# Altium footprint library memory-sram.PCBLIB: 19 footprints (part 1 of 2)
Each footprint in its own frame and in the unit in brackets; x right, y up, seen from the top. Pads: shape width x height; smd on the part's side, far side on the other; paste and mask are expansions set on the pad; w line width, h text height; cw(c..) or ccw(c..) is an arc to the next point about the centre after c.
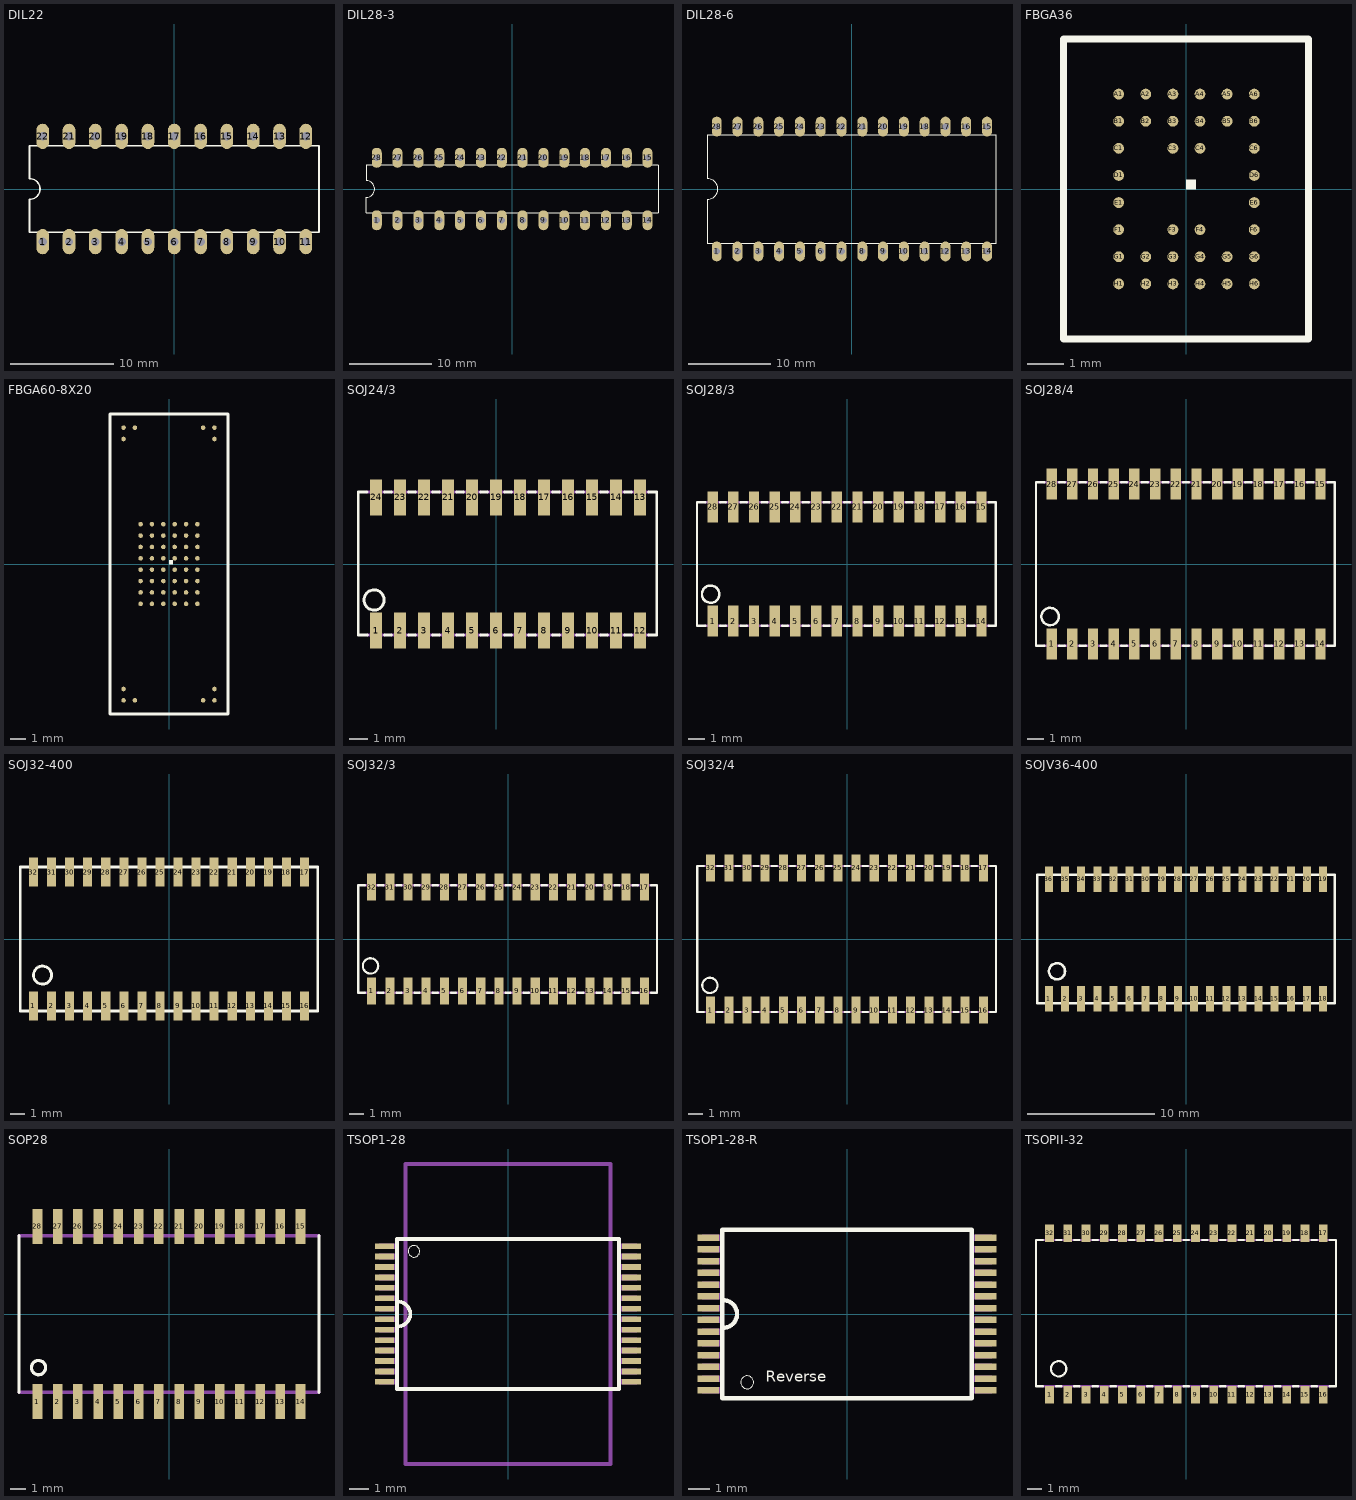
[diagram p0: the footprints below, top view; thin cyan lines are the x and y axes]

## DIL22 [mil]
pads (22):
  oval 48x96 hole 32: 1(-500,-200) 2(-400,-200) 3(-300,-200) 4(-200,-200) 5(-100,-200) 6(0,-200) 7(100,-200) 8(200,-200) 9(300,-200) 10(400,-200) 11(500,-200) 12(500,200) 13(400,200) 14(300,200) 15(200,200) 16(100,200) 17(0,200) 18(-100,200) 19(-200,200) 20(-300,200) 21(-400,200) 22(-500,200)
Top Overlay:
  lines w6: -550,-165 550,-165 550,165 -550,165 -550,40 cw(c-550,0) -550,-40 -550,-165

## DIL28-3 [mil]
pads (28):
  oval 48x96 hole 32: 1(-650,-150) 2(-550,-150) 3(-450,-150) 4(-350,-150) 5(-250,-150) 6(-150,-150) 7(-50,-150) 8(50,-150) 9(150,-150) 10(250,-150) 11(350,-150) 12(450,-150) 13(550,-150) 14(650,-150) 15(650,150) 16(550,150) 17(450,150) 18(350,150) 19(250,150) 20(150,150) 21(50,150) 22(-50,150) 23(-150,150) 24(-250,150) 25(-350,150) 26(-450,150) 27(-550,150) 28(-650,150)
Top Overlay:
  lines w6: -700,-115 700,-115 700,115 -700,115 -700,40 cw(c-700,0) -700,-40 -700,-115

## DIL28-6 [mil]
pads (28):
  oval 48x96 hole 32: 1(-650,-300) 2(-550,-300) 3(-450,-300) 4(-350,-300) 5(-250,-300) 6(-150,-300) 7(-50,-300) 8(50,-300) 9(150,-300) 10(250,-300) 11(350,-300) 12(450,-300) 13(550,-300) 14(650,-300) 15(650,300) 16(550,300) 17(450,300) 18(350,300) 19(250,300) 20(150,300) 21(50,300) 22(-50,300) 23(-150,300) 24(-250,300) 25(-350,300) 26(-450,300) 27(-550,300) 28(-650,300)
Top Overlay:
  lines w6: -695,-260 -695,-50 ccw(c-695,0) -695,50 -695,260 695,260 695,-260 -695,-260

## FBGA36 [mil]
pads (36):
  rrect100% 11.81x11.81 smd: A1(-73.82,103.35) A2(-44.29,103.35) A3(-14.76,103.35) A4(14.76,103.35) A5(44.29,103.35) A6(73.82,103.35) B1(-73.82,73.82) B2(-44.29,73.82) B3(-14.76,73.82) B4(14.76,73.82) B5(44.29,73.82) B6(73.82,73.82) C1(-73.82,44.29) C3(-14.76,44.29) C4(14.76,44.29) C6(73.82,44.29) D1(-73.82,14.76) D6(73.82,14.76) E1(-73.82,-14.76) E6(73.82,-14.76) F1(-73.82,-44.29) F3(-14.76,-44.29) F4(14.76,-44.29) F6(73.82,-44.29) G1(-73.82,-73.82) G2(-44.29,-73.82) G3(-14.76,-73.82) G4(14.76,-73.82) G5(44.29,-73.82) G6(73.82,-73.82) H1(-73.82,-103.35) H2(-44.29,-103.35) H3(-14.76,-103.35) H4(14.76,-103.35) H5(44.29,-103.35) H6(73.82,-103.35)
Top Overlay:
  region: 0,0 10,0 10,10 0,10
  lines w8: -133.86,-163.39 132.87,-163.39 132.87,163.39 -133.86,163.39 -133.86,-163.39
Top Solder:
  circle w0: c-73.82,103.35 r5.91
  circle w0: c-73.82,73.82 r5.91
  circle w0: c-73.82,44.29 r5.91
  circle w0: c-73.82,14.76 r5.91
  circle w0: c-73.82,-14.76 r5.91
  circle w0: c-73.82,-44.29 r5.91
  circle w0: c-73.82,-73.82 r5.91
  circle w0: c-73.82,-103.35 r5.91
  circle w0: c-44.29,103.35 r5.91
  circle w0: c-44.29,73.82 r5.91
  circle w0: c-44.29,-73.82 r5.91
  circle w0: c-44.29,-103.35 r5.91
  circle w0: c-14.76,103.35 r5.91
  circle w0: c-14.76,73.82 r5.91
  circle w0: c-14.76,44.29 r5.91
  circle w0: c-14.76,-44.29 r5.91
  circle w0: c-14.76,-73.82 r5.91
  circle w0: c-14.76,-103.35 r5.91
  circle w0: c14.76,103.35 r5.91
  circle w0: c14.76,73.82 r5.91
  circle w0: c14.76,44.29 r5.91
  circle w0: c14.76,-44.29 r5.91
  circle w0: c14.76,-73.82 r5.91
  circle w0: c14.76,-103.35 r5.91
  circle w0: c44.29,103.35 r5.91
  circle w0: c44.29,73.82 r5.91
  circle w0: c44.29,-73.82 r5.91
  circle w0: c44.29,-103.35 r5.91
  circle w0: c73.82,103.35 r5.91
  circle w0: c73.82,73.82 r5.91
  circle w0: c73.82,44.29 r5.91
  circle w0: c73.82,14.76 r5.91
  circle w0: c73.82,-14.76 r5.91
  circle w0: c73.82,-44.29 r5.91
  circle w0: c73.82,-73.82 r5.91
  circle w0: c73.82,-103.35 r5.91

## FBGA60-8X20 [mm]
pads (60):
  rrect100% 0.3x0.3 smd: A1(-1.875,2.625) A2(-1.125,2.625) A3(-0.375,2.625) A4(0.375,2.625) A5(1.125,2.625) A6(1.875,2.625) B1(-1.875,1.875) B2(-1.125,1.875) B3(-0.375,1.875) B4(0.375,1.875) B5(1.125,1.875) B6(1.875,1.875) C1(-1.875,1.125) C2(-1.125,1.125) C3(-0.375,1.125) C4(0.375,1.125) C5(1.125,1.125) C6(1.875,1.125) D1(-1.875,0.375) D2(-1.125,0.375) D3(-0.375,0.375) D4(0.375,0.375) D5(1.125,0.375) D6(1.875,0.375) DY@1(-3,9) DY@2(-2.25,9) DY@3(-3,8.25) DY@4(-3,-8.25) DY@5(-3,-9) DY@6(-2.25,-9) DY@7(2.25,9) DY@8(3,9) DY@9(3,8.25) DY@10(3,-8.25) DY@11(3,-9) DY@12(2.25,-9) E1(-1.875,-0.375) E2(-1.125,-0.375) E3(-0.375,-0.375) E4(0.375,-0.375) E5(1.125,-0.375) E6(1.875,-0.375) F1(-1.875,-1.125) F2(-1.125,-1.125) F3(-0.375,-1.125) F4(0.375,-1.125) F5(1.125,-1.125) F6(1.875,-1.125) G1(-1.875,-1.875) G2(-1.125,-1.875) G3(-0.375,-1.875) G4(0.375,-1.875) G5(1.125,-1.875) G6(1.875,-1.875) H1(-1.875,-2.625) H2(-1.125,-2.625) H3(-0.375,-2.625) H4(0.375,-2.625) H5(1.125,-2.625) H6(1.875,-2.625)
Top Overlay:
  region: 0,0 0.254,0 0.254,0.254 0,0.254
  lines w0.203: -3.9,-9.9 3.9,-9.9 3.9,9.9 -3.9,9.9 -3.9,-9.9
Top Solder:
  circle w0: c-1.875,2.625 r0.15
  circle w0: c-1.875,1.875 r0.15
  circle w0: c-1.875,1.125 r0.15
  circle w0: c-1.875,0.375 r0.15
  circle w0: c-1.875,-0.375 r0.15
  circle w0: c-1.875,-1.125 r0.15
  circle w0: c-1.875,-1.875 r0.15
  circle w0: c-1.875,-2.625 r0.15
  circle w0: c-1.125,2.625 r0.15
  circle w0: c-1.125,1.875 r0.15
  circle w0: c-1.125,-1.875 r0.15
  circle w0: c-1.125,-2.625 r0.15
  circle w0: c-0.375,2.625 r0.15
  circle w0: c-0.375,1.875 r0.15
  circle w0: c-0.375,1.125 r0.15
  circle w0: c-0.375,-1.125 r0.15
  circle w0: c-0.375,-1.875 r0.15
  circle w0: c-0.375,-2.625 r0.15
  circle w0: c0.375,2.625 r0.15
  circle w0: c0.375,1.875 r0.15
  circle w0: c0.375,1.125 r0.15
  circle w0: c0.375,-1.125 r0.15
  circle w0: c0.375,-1.875 r0.15
  circle w0: c0.375,-2.625 r0.15
  circle w0: c1.125,2.625 r0.15
  circle w0: c1.125,1.875 r0.15
  circle w0: c1.125,-1.875 r0.15
  circle w0: c1.125,-2.625 r0.15
  circle w0: c1.875,2.625 r0.15
  circle w0: c1.875,1.875 r0.15
  circle w0: c1.875,1.125 r0.15
  circle w0: c1.875,0.375 r0.15
  circle w0: c1.875,-0.375 r0.15
  circle w0: c1.875,-1.125 r0.15
  circle w0: c1.875,-1.875 r0.15
  circle w0: c1.875,-2.625 r0.15
  circle w0: c-1.125,1.125 r0.15
  circle w0: c-1.125,0.375 r0.15
  circle w0: c-1.125,-0.375 r0.15
  circle w0: c-1.125,-1.125 r0.15
  circle w0: c-0.375,0.375 r0.15
  circle w0: c-0.375,-0.375 r0.15
  circle w0: c0.375,0.375 r0.15
  circle w0: c0.375,-0.375 r0.15
  circle w0: c1.125,1.125 r0.15
  circle w0: c1.125,-1.125 r0.15
  circle w0: c1.125,0.375 r0.15
  circle w0: c1.125,-0.375 r0.15
  circle w0: c-3,9 r0.15
  circle w0: c-3,-9 r0.15
  circle w0: c3,9 r0.15
  circle w0: c3,-9 r0.15
  circle w0: c-2.25,9 r0.15
  circle w0: c-3,8.25 r0.15
  circle w0: c-3,-8.25 r0.15
  circle w0: c-2.25,-9 r0.15
  circle w0: c2.25,9 r0.15
  circle w0: c3,8.25 r0.15
  circle w0: c3,-8.25 r0.15
  circle w0: c2.25,-9 r0.15

## SOJ24/3 [mil]
pads (24):
  rect 25x75 smd: 1(-250,-139) 2(-200,-139) 3(-150,-139) 4(-100,-139) 5(-50,-139) 6(0,-139) 7(50,-139) 8(100,-139) 9(150,-139) 10(200,-139) 11(250,-139) 12(300,-139) 13(300,139) 14(250,139) 15(200,139) 16(150,139) 17(100,139) 18(50,139) 19(0,139) 20(-50,139) 21(-100,139) 22(-150,139) 23(-200,139) 24(-250,139)
Top Overlay:
  circle w6: c-254,-75 r21
  lines w6: -269,150 -287,150 -287,-148 -268,-148 ; -232,-148 -218,-148 ; -232,150 -218,150 ; -182,-148 -168,-148 ; -182,150 -168,150 ; -132,-148 -118,-148 ; -132,150 -118,150 ; -82,-148 -68,-148 ; -82,150 -68,150 ; -32,-148 -18,-148 ; -32,150 -18,150 ; 18,-148 32,-148 ; 18,150 32,150 ; 68,-148 82,-148 ; 68,150 82,150 ; 118,-148 132,-148 ; 118,150 132,150 ; 168,-148 182,-148 ; 168,150 182,150 ; 218,-148 232,-148 ; 218,150 232,150 ; 268,-148 282,-148 ; 268,150 282,150 ; 318,-148 335,-148 335,150 318,150
Mechanical 16:
  rectangle: 290,152 310,172
  rectangle: 293,122 307,152
  rectangle: 240,152 260,172
  rectangle: 243,122 257,152
  rectangle: 190,152 210,172
  rectangle: 193,122 207,152
  rectangle: 140,152 160,172
  rectangle: 143,122 157,152
  rectangle: 90,152 110,172
  rectangle: 93,122 107,152
  rectangle: 40,152 60,172
  rectangle: 43,122 57,152
  rectangle: -10,152 10,172
  rectangle: -7,122 7,152
  rectangle: -60,152 -40,172
  rectangle: -57,122 -43,152
  rectangle: -110,152 -90,172
  rectangle: -107,122 -93,152
  rectangle: -160,152 -140,172
  rectangle: -157,122 -143,152
  rectangle: -210,152 -190,172
  rectangle: -207,122 -193,152
  rectangle: -260,152 -240,172
  rectangle: -257,122 -243,152
  rectangle: -260,-170 -240,-150
  rectangle: -257,-150 -243,-120
  rectangle: -210,-170 -190,-150
  rectangle: -207,-150 -193,-120
  rectangle: -160,-170 -140,-150
  rectangle: -157,-150 -143,-120
  rectangle: -110,-170 -90,-150
  rectangle: -107,-150 -93,-120
  rectangle: -60,-170 -40,-150
  rectangle: -57,-150 -43,-120
  rectangle: -10,-170 10,-150
  rectangle: -7,-150 7,-120
  rectangle: 40,-170 60,-150
  rectangle: 43,-150 57,-120
  rectangle: 90,-170 110,-150
  rectangle: 93,-150 107,-120
  rectangle: 140,-170 160,-150
  rectangle: 143,-150 157,-120
  rectangle: 190,-170 210,-150
  rectangle: 193,-150 207,-120
  rectangle: 240,-170 260,-150
  rectangle: 243,-150 257,-120
  rectangle: 290,-170 310,-150
  rectangle: 293,-150 307,-120
  lines w6: -269,150 -232,150 ; -268,-148 -232,-148 ; -218,-148 -182,-148 ; -218,150 -182,150 ; -168,-148 -132,-148 ; -168,150 -132,150 ; -118,-148 -82,-148 ; -118,150 -82,150 ; -68,-148 -32,-148 ; -68,150 -32,150 ; -18,-148 18,-148 ; -18,150 18,150 ; 32,-148 68,-148 ; 32,150 68,150 ; 82,-148 118,-148 ; 82,150 118,150 ; 132,-148 168,-148 ; 132,150 168,150 ; 182,-148 218,-148 ; 182,150 218,150 ; 232,-148 268,-148 ; 232,150 268,150 ; 282,-148 318,-148 ; 282,150 318,150

## SOJ28/3 [mil]
pads (28):
  rect 25x75 smd: 1(-325,-138) 2(-275,-138) 3(-225,-138) 4(-175,-138) 5(-125,-138) 6(-75,-138) 7(-25,-138) 8(25,-138) 9(75,-138) 10(125,-138) 11(175,-138) 12(225,-138) 13(275,-138) 14(325,-138) 15(325,138) 16(275,138) 17(225,138) 18(175,138) 19(125,138) 20(75,138) 21(25,138) 22(-25,138) 23(-75,138) 24(-125,138) 25(-175,138) 26(-225,138) 27(-275,138) 28(-325,138)
Top Overlay:
  circle w6: c-330,-73 r21
  lines w6: -343,-149 -363,-149 -363,149 -343,149 ; -307,-149 -293,-149 ; -307,149 -293,149 ; -257,-149 -243,-149 ; -257,149 -243,149 ; -207,-149 -193,-149 ; -207,149 -193,149 ; -157,-149 -143,-149 ; -157,149 -143,149 ; -107,-149 -93,-149 ; -107,149 -93,149 ; -57,-149 -43,-149 ; -57,149 -43,149 ; -7,-149 7,-149 ; -7,149 7,149 ; 43,-149 57,-149 ; 43,149 57,149 ; 93,-149 107,-149 ; 93,149 107,149 ; 143,-149 157,-149 ; 143,149 157,149 ; 193,-149 207,-149 ; 193,149 207,149 ; 243,-149 257,-149 ; 243,149 257,149 ; 293,-149 307,-149 ; 293,149 307,149 ; 343,-149 359,-149 359,149 343,149
Mechanical 16:
  rectangle: 315,151 335,171
  rectangle: 318,121 332,151
  rectangle: 315,-171 335,-151
  rectangle: 318,-151 332,-121
  rectangle: 265,-171 285,-151
  rectangle: 268,-151 282,-121
  rectangle: 215,-171 235,-151
  rectangle: 218,-151 232,-121
  rectangle: 165,-171 185,-151
  rectangle: 168,-151 182,-121
  rectangle: 115,-171 135,-151
  rectangle: 118,-151 132,-121
  rectangle: 65,-171 85,-151
  rectangle: 68,-151 82,-121
  rectangle: 15,-171 35,-151
  rectangle: 18,-151 32,-121
  rectangle: -35,-171 -15,-151
  rectangle: -32,-151 -18,-121
  rectangle: -85,-171 -65,-151
  rectangle: -82,-151 -68,-121
  rectangle: -135,-171 -115,-151
  rectangle: -132,-151 -118,-121
  rectangle: -185,-171 -165,-151
  rectangle: -182,-151 -168,-121
  rectangle: -235,-171 -215,-151
  rectangle: -232,-151 -218,-121
  rectangle: -285,-171 -265,-151
  rectangle: -282,-151 -268,-121
  rectangle: -335,-171 -315,-151
  rectangle: -332,-151 -318,-121
  rectangle: -335,151 -315,171
  rectangle: -332,121 -318,151
  rectangle: -285,151 -265,171
  rectangle: -282,121 -268,151
  rectangle: -235,151 -215,171
  rectangle: -232,121 -218,151
  rectangle: -185,151 -165,171
  rectangle: -182,121 -168,151
  rectangle: -135,151 -115,171
  rectangle: -132,121 -118,151
  rectangle: -85,151 -65,171
  rectangle: -82,121 -68,151
  rectangle: -35,151 -15,171
  rectangle: -32,121 -18,151
  rectangle: 15,151 35,171
  rectangle: 18,121 32,151
  rectangle: 65,151 85,171
  rectangle: 68,121 82,151
  rectangle: 115,151 135,171
  rectangle: 118,121 132,151
  rectangle: 165,151 185,171
  rectangle: 168,121 182,151
  rectangle: 215,151 235,171
  rectangle: 218,121 232,151
  rectangle: 265,151 285,171
  rectangle: 268,121 282,151
  lines w6: -343,-149 -307,-149 ; -343,149 -307,149 ; -293,-149 -257,-149 ; -293,149 -257,149 ; -243,-149 -207,-149 ; -243,149 -207,149 ; -193,-149 -157,-149 ; -193,149 -157,149 ; -143,-149 -107,-149 ; -143,149 -107,149 ; -93,-149 -57,-149 ; -93,149 -57,149 ; -43,-149 -7,-149 ; -43,149 -7,149 ; 7,-149 43,-149 ; 7,149 43,149 ; 57,-149 93,-149 ; 57,149 93,149 ; 107,-149 143,-149 ; 107,149 143,149 ; 157,-149 193,-149 ; 157,149 193,149 ; 207,-149 243,-149 ; 207,149 243,149 ; 257,-149 293,-149 ; 257,149 293,149 ; 307,-149 343,-149 ; 307,149 343,149

## SOJ28/4 [mil]
pads (28):
  rect 25x75 smd: 1(-325,-193) 2(-275,-193) 3(-225,-193) 4(-175,-193) 5(-125,-193) 6(-75,-193) 7(-25,-193) 8(25,-193) 9(75,-193) 10(125,-193) 11(175,-193) 12(225,-193) 13(275,-193) 14(325,-193) 15(325,193) 16(275,193) 17(225,193) 18(175,193) 19(125,193) 20(75,193) 21(25,193) 22(-25,193) 23(-75,193) 24(-125,193) 25(-175,193) 26(-225,193) 27(-275,193) 28(-325,193)
Top Overlay:
  circle w6: c-329,-127 r21
  lines w6: -343,-198 -363,-198 -363,198 -343,198 ; -307,-198 -293,-198 ; -307,198 -293,198 ; -257,-198 -243,-198 ; -257,198 -243,198 ; -207,-198 -193,-198 ; -207,198 -193,198 ; -157,-198 -143,-198 ; -157,198 -143,198 ; -107,-198 -93,-198 ; -107,198 -93,198 ; -57,-198 -43,-198 ; -57,198 -43,198 ; -7,-198 7,-198 ; -7,198 7,198 ; 43,-198 57,-198 ; 43,198 57,198 ; 93,-198 107,-198 ; 93,198 107,198 ; 143,-198 157,-198 ; 143,198 157,198 ; 193,-198 207,-198 ; 193,198 207,198 ; 243,-198 257,-198 ; 243,198 257,198 ; 293,-198 307,-198 ; 293,198 307,198 ; 343,-198 359,-198 359,198 343,198
Mechanical 16:
  rectangle: 315,200 335,220
  rectangle: 318,170 332,200
  rectangle: 315,-220 335,-200
  rectangle: 318,-200 332,-170
  rectangle: 265,200 285,220
  rectangle: 268,170 282,200
  rectangle: 215,200 235,220
  rectangle: 218,170 232,200
  rectangle: 165,200 185,220
  rectangle: 168,170 182,200
  rectangle: 115,200 135,220
  rectangle: 118,170 132,200
  rectangle: 65,200 85,220
  rectangle: 68,170 82,200
  rectangle: 15,200 35,220
  rectangle: 18,170 32,200
  rectangle: -35,200 -15,220
  rectangle: -32,170 -18,200
  rectangle: -185,200 -165,220
  rectangle: -182,170 -168,200
  rectangle: -135,200 -115,220
  rectangle: -132,170 -118,200
  rectangle: -85,200 -65,220
  rectangle: -82,170 -68,200
  rectangle: -235,200 -215,220
  rectangle: -232,170 -218,200
  rectangle: -285,200 -265,220
  rectangle: -282,170 -268,200
  rectangle: -335,200 -315,220
  rectangle: -332,170 -318,200
  rectangle: -335,-220 -315,-200
  rectangle: -332,-200 -318,-170
  rectangle: -285,-220 -265,-200
  rectangle: -282,-200 -268,-170
  rectangle: -235,-220 -215,-200
  rectangle: -232,-200 -218,-170
  rectangle: -185,-220 -165,-200
  rectangle: -182,-200 -168,-170
  rectangle: -135,-220 -115,-200
  rectangle: -132,-200 -118,-170
  rectangle: -85,-220 -65,-200
  rectangle: -82,-200 -68,-170
  rectangle: -35,-220 -15,-200
  rectangle: -32,-200 -18,-170
  rectangle: 15,-220 35,-200
  rectangle: 18,-200 32,-170
  rectangle: 65,-220 85,-200
  rectangle: 68,-200 82,-170
  rectangle: 115,-220 135,-200
  rectangle: 118,-200 132,-170
  rectangle: 165,-220 185,-200
  rectangle: 168,-200 182,-170
  rectangle: 215,-220 235,-200
  rectangle: 218,-200 232,-170
  rectangle: 265,-220 285,-200
  rectangle: 268,-200 282,-170
  lines w6: -343,-198 -307,-198 ; -343,198 -307,198 ; -293,-198 -257,-198 ; -293,198 -257,198 ; -243,-198 -207,-198 ; -243,198 -207,198 ; -193,-198 -157,-198 ; -193,198 -157,198 ; -143,-198 -107,-198 ; -143,198 -107,198 ; -93,-198 -57,-198 ; -93,198 -57,198 ; -43,-198 -7,-198 ; -43,198 -7,198 ; 7,-198 43,-198 ; 7,198 43,198 ; 57,-198 93,-198 ; 57,198 93,198 ; 107,-198 143,-198 ; 107,198 143,198 ; 157,-198 193,-198 ; 157,198 193,198 ; 207,-198 243,-198 ; 207,198 243,198 ; 257,-198 293,-198 ; 257,198 293,198 ; 307,-198 343,-198 ; 307,198 343,198

## SOJ32-400 [mil]
pads (32):
  rect 25x80 smd: 1(-375,-185) 2(-325,-185) 3(-275,-185) 4(-225,-185) 5(-175,-185) 6(-125,-185) 7(-75,-185) 8(-25,-185) 9(25,-185) 10(75,-185) 11(125,-185) 12(175,-185) 13(225,-185) 14(275,-185) 15(325,-185) 16(375,-185) 17(375,185) 18(325,185) 19(275,185) 20(225,185) 21(175,185) 22(125,185) 23(75,185) 24(25,185) 25(-25,185) 26(-75,185) 27(-125,185) 28(-175,185) 29(-225,185) 30(-275,185) 31(-325,185) 32(-375,185)
Top Overlay:
  circle w8: c-350,-100 r25
  lines w8: -411.42,-198.82 411.42,-198.82 411.42,198.82 -411.42,198.82 -411.42,-198.82
Mechanical 16:
  rectangle: -385,-222 -365,-148
  rectangle: -335,-222 -315,-148
  rectangle: -285,-222 -265,-148
  rectangle: -235,-222 -215,-148
  rectangle: -185,-222 -165,-148
  rectangle: -135,-222 -115,-148
  rectangle: -85,-222 -65,-148
  rectangle: -35,-222 -15,-148
  rectangle: 15,-222 35,-148
  rectangle: 65,-222 85,-148
  rectangle: 115,-222 135,-148
  rectangle: 165,-222 185,-148
  rectangle: 215,-222 235,-148
  rectangle: 265,-222 285,-148
  rectangle: 315,-222 335,-148
  rectangle: 365,-222 385,-148
  region: 385,222 365,222 365,148 385,148
  region: 335,222 315,222 315,148 335,148
  region: 285,222 265,222 265,148 285,148
  region: 235,222 215,222 215,148 235,148
  region: 185,222 165,222 165,148 185,148
  region: 135,222 115,222 115,148 135,148
  region: 85,222 65,222 65,148 85,148
  region: 35,222 15,222 15,148 35,148
  region: -15,222 -35,222 -35,148 -15,148
  region: -65,222 -85,222 -85,148 -65,148
  region: -115,222 -135,222 -135,148 -115,148
  region: -165,222 -185,222 -185,148 -165,148
  region: -215,222 -235,222 -235,148 -215,148
  region: -265,222 -285,222 -285,148 -265,148
  region: -315,222 -335,222 -335,148 -315,148
  region: -365,222 -385,222 -385,148 -365,148

## SOJ32/3 [mil]
pads (32):
  rect 25x75 smd: 1(-375,-143) 2(-325,-143) 3(-275,-143) 4(-225,-143) 5(-175,-143) 6(-125,-143) 7(-75,-143) 8(-25,-143) 9(25,-143) 10(75,-143) 11(125,-143) 12(175,-143) 13(225,-143) 14(275,-143) 15(325,-143) 16(375,-143) 17(375,143) 18(325,143) 19(275,143) 20(225,143) 21(175,143) 22(125,143) 23(75,143) 24(25,143) 25(-25,143) 26(-75,143) 27(-125,143) 28(-175,143) 29(-225,143) 30(-275,143) 31(-325,143) 32(-375,143)
Top Overlay:
  circle w6: c-378,-74 r21
  lines w6: -393,-148 -412,-148 -412,148 -393,148 ; -357,-148 -343,-148 ; -357,148 -343,148 ; -307,-148 -293,-148 ; -307,148 -293,148 ; -257,-148 -243,-148 ; -257,148 -243,148 ; -207,-148 -193,-148 ; -207,148 -193,148 ; -157,-148 -143,-148 ; -157,148 -143,148 ; -107,-148 -93,-148 ; -107,148 -93,148 ; -57,-148 -43,-148 ; -57,148 -43,148 ; -7,-148 7,-148 ; -7,148 7,148 ; 43,-148 57,-148 ; 43,148 57,148 ; 93,-148 107,-148 ; 93,148 107,148 ; 143,-148 157,-148 ; 143,148 157,148 ; 193,-148 207,-148 ; 193,148 207,148 ; 243,-148 257,-148 ; 243,148 257,148 ; 293,-148 307,-148 ; 293,148 307,148 ; 343,-148 357,-148 ; 343,148 357,148 ; 393,-148 410,-148 410,148 393,148
Mechanical 16:
  rectangle: 365,150 385,170
  rectangle: 368,120 382,150
  rectangle: 365,-170 385,-150
  rectangle: 368,-150 382,-120
  rectangle: 315,150 335,170
  rectangle: 318,120 332,150
  rectangle: 265,150 285,170
  rectangle: 268,120 282,150
  rectangle: 215,150 235,170
  rectangle: 218,120 232,150
  rectangle: 165,150 185,170
  rectangle: 168,120 182,150
  rectangle: 115,150 135,170
  rectangle: 118,120 132,150
  rectangle: 65,150 85,170
  rectangle: 68,120 82,150
  rectangle: 15,150 35,170
  rectangle: 18,120 32,150
  rectangle: -35,150 -15,170
  rectangle: -32,120 -18,150
  rectangle: -85,150 -65,170
  rectangle: -82,120 -68,150
  rectangle: -135,150 -115,170
  rectangle: -132,120 -118,150
  rectangle: -185,150 -165,170
  rectangle: -182,120 -168,150
  rectangle: -385,150 -365,170
  rectangle: -382,120 -368,150
  rectangle: -335,150 -315,170
  rectangle: -332,120 -318,150
  rectangle: -285,150 -265,170
  rectangle: -282,120 -268,150
  rectangle: -235,150 -215,170
  rectangle: -232,120 -218,150
  rectangle: -385,-170 -365,-150
  rectangle: -382,-150 -368,-120
  rectangle: -335,-170 -315,-150
  rectangle: -332,-150 -318,-120
  rectangle: -285,-170 -265,-150
  rectangle: -282,-150 -268,-120
  rectangle: -235,-170 -215,-150
  rectangle: -232,-150 -218,-120
  rectangle: -185,-170 -165,-150
  rectangle: -182,-150 -168,-120
  rectangle: -135,-170 -115,-150
  rectangle: -132,-150 -118,-120
  rectangle: -85,-170 -65,-150
  rectangle: -82,-150 -68,-120
  rectangle: -35,-170 -15,-150
  rectangle: -32,-150 -18,-120
  rectangle: 15,-170 35,-150
  rectangle: 18,-150 32,-120
  rectangle: 65,-170 85,-150
  rectangle: 68,-150 82,-120
  rectangle: 115,-170 135,-150
  rectangle: 118,-150 132,-120
  rectangle: 165,-170 185,-150
  rectangle: 168,-150 182,-120
  rectangle: 215,-170 235,-150
  rectangle: 218,-150 232,-120
  rectangle: 265,-170 285,-150
  rectangle: 268,-150 282,-120
  rectangle: 315,-170 335,-150
  rectangle: 318,-150 332,-120
  lines w6: -393,-148 -357,-148 ; -393,148 -357,148 ; -343,-148 -307,-148 ; -343,148 -307,148 ; -293,-148 -257,-148 ; -293,148 -257,148 ; -243,-148 -207,-148 ; -243,148 -207,148 ; -193,-148 -157,-148 ; -193,148 -157,148 ; -143,-148 -107,-148 ; -143,148 -107,148 ; -93,-148 -57,-148 ; -93,148 -57,148 ; -43,-148 -7,-148 ; -43,148 -7,148 ; 7,-148 43,-148 ; 7,148 43,148 ; 57,-148 93,-148 ; 57,148 93,148 ; 107,-148 143,-148 ; 107,148 143,148 ; 157,-148 193,-148 ; 157,148 193,148 ; 207,-148 243,-148 ; 207,148 243,148 ; 257,-148 293,-148 ; 257,148 293,148 ; 307,-148 343,-148 ; 307,148 343,148 ; 357,-148 393,-148 ; 357,148 393,148

## SOJ32/4 [mil]
pads (32):
  rect 25x75 smd: 1(-375,-195.5) 2(-325,-195.5) 3(-275,-195.5) 4(-225,-195.5) 5(-175,-195.5) 6(-125,-195.5) 7(-75,-195.5) 8(-25,-195.5) 9(25,-195.5) 10(75,-195.5) 11(125,-195.5) 12(175,-195.5) 13(225,-195.5) 14(275,-195.5) 15(325,-195.5) 16(375,-195.5) 17(375,195.5) 18(325,195.5) 19(275,195.5) 20(225,195.5) 21(175,195.5) 22(125,195.5) 23(75,195.5) 24(25,195.5) 25(-25,195.5) 26(-75,195.5) 27(-125,195.5) 28(-175,195.5) 29(-225,195.5) 30(-275,195.5) 31(-325,195.5) 32(-375,195.5)
Top Overlay:
  circle w6: c-377,-127.5 r21
  lines w6: -393,-200.5 -412,-200.5 -412,200.5 -393,200.5 ; -357,-200.5 -343,-200.5 ; -357,200.5 -343,200.5 ; -307,-200.5 -293,-200.5 ; -307,200.5 -293,200.5 ; -257,-200.5 -243,-200.5 ; -257,200.5 -243,200.5 ; -207,-200.5 -193,-200.5 ; -207,200.5 -193,200.5 ; -157,-200.5 -143,-200.5 ; -157,200.5 -143,200.5 ; -107,-200.5 -93,-200.5 ; -107,200.5 -93,200.5 ; -57,-200.5 -43,-200.5 ; -57,200.5 -43,200.5 ; -7,-200.5 7,-200.5 ; -7,200.5 7,200.5 ; 43,-200.5 57,-200.5 ; 43,200.5 57,200.5 ; 93,-200.5 107,-200.5 ; 93,200.5 107,200.5 ; 143,-200.5 157,-200.5 ; 143,200.5 157,200.5 ; 193,-200.5 207,-200.5 ; 193,200.5 207,200.5 ; 243,-200.5 257,-200.5 ; 243,200.5 257,200.5 ; 293,-200.5 307,-200.5 ; 293,200.5 307,200.5 ; 343,-200.5 357,-200.5 ; 343,200.5 357,200.5 ; 393,-200.5 410,-200.5 410,200.5 393,200.5
Mechanical 16:
  rectangle: 365,202.5 385,222.5
  rectangle: 368,172.5 382,202.5
  rectangle: 365,-222.5 385,-202.5
  rectangle: 368,-202.5 382,-172.5
  rectangle: 315,202.5 335,222.5
  rectangle: 318,172.5 332,202.5
  rectangle: -35,202.5 -15,222.5
  rectangle: -32,172.5 -18,202.5
  rectangle: 15,202.5 35,222.5
  rectangle: 18,172.5 32,202.5
  rectangle: 65,202.5 85,222.5
  rectangle: 68,172.5 82,202.5
  rectangle: 115,202.5 135,222.5
  rectangle: 118,172.5 132,202.5
  rectangle: 165,202.5 185,222.5
  rectangle: 168,172.5 182,202.5
  rectangle: 215,202.5 235,222.5
  rectangle: 218,172.5 232,202.5
  rectangle: 265,202.5 285,222.5
  rectangle: 268,172.5 282,202.5
  rectangle: -385,202.5 -365,222.5
  rectangle: -382,172.5 -368,202.5
  rectangle: -335,202.5 -315,222.5
  rectangle: -332,172.5 -318,202.5
  rectangle: -285,202.5 -265,222.5
  rectangle: -282,172.5 -268,202.5
  rectangle: -235,202.5 -215,222.5
  rectangle: -232,172.5 -218,202.5
  rectangle: -185,202.5 -165,222.5
  rectangle: -182,172.5 -168,202.5
  rectangle: -135,202.5 -115,222.5
  rectangle: -132,172.5 -118,202.5
  rectangle: -85,202.5 -65,222.5
  rectangle: -82,172.5 -68,202.5
  rectangle: -385,-222.5 -365,-202.5
  rectangle: -382,-202.5 -368,-172.5
  rectangle: -335,-222.5 -315,-202.5
  rectangle: -332,-202.5 -318,-172.5
  rectangle: -285,-222.5 -265,-202.5
  rectangle: -282,-202.5 -268,-172.5
  rectangle: -235,-222.5 -215,-202.5
  rectangle: -232,-202.5 -218,-172.5
  rectangle: -185,-222.5 -165,-202.5
  rectangle: -182,-202.5 -168,-172.5
  rectangle: -135,-222.5 -115,-202.5
  rectangle: -132,-202.5 -118,-172.5
  rectangle: -85,-222.5 -65,-202.5
  rectangle: -82,-202.5 -68,-172.5
  rectangle: -35,-222.5 -15,-202.5
  rectangle: -32,-202.5 -18,-172.5
  rectangle: 15,-222.5 35,-202.5
  rectangle: 18,-202.5 32,-172.5
  rectangle: 65,-222.5 85,-202.5
  rectangle: 68,-202.5 82,-172.5
  rectangle: 115,-222.5 135,-202.5
  rectangle: 118,-202.5 132,-172.5
  rectangle: 165,-222.5 185,-202.5
  rectangle: 168,-202.5 182,-172.5
  rectangle: 215,-222.5 235,-202.5
  rectangle: 218,-202.5 232,-172.5
  rectangle: 265,-222.5 285,-202.5
  rectangle: 268,-202.5 282,-172.5
  rectangle: 315,-222.5 335,-202.5
  rectangle: 318,-202.5 332,-172.5
  lines w6: -393,-200.5 -357,-200.5 ; -393,200.5 -357,200.5 ; -343,-200.5 -307,-200.5 ; -343,200.5 -307,200.5 ; -293,-200.5 -257,-200.5 ; -293,200.5 -257,200.5 ; -243,-200.5 -207,-200.5 ; -243,200.5 -207,200.5 ; -193,-200.5 -157,-200.5 ; -193,200.5 -157,200.5 ; -143,-200.5 -107,-200.5 ; -143,200.5 -107,200.5 ; -93,-200.5 -57,-200.5 ; -93,200.5 -57,200.5 ; -43,-200.5 -7,-200.5 ; -43,200.5 -7,200.5 ; 7,-200.5 43,-200.5 ; 7,200.5 43,200.5 ; 57,-200.5 93,-200.5 ; 57,200.5 93,200.5 ; 107,-200.5 143,-200.5 ; 107,200.5 143,200.5 ; 157,-200.5 193,-200.5 ; 157,200.5 193,200.5 ; 207,-200.5 243,-200.5 ; 207,200.5 243,200.5 ; 257,-200.5 293,-200.5 ; 257,200.5 293,200.5 ; 307,-200.5 343,-200.5 ; 307,200.5 343,200.5 ; 357,-200.5 393,-200.5 ; 357,200.5 393,200.5

## SOJV36-400 [mil]
pads (36):
  rect 25x80 smd: 1(-425,-185) 2(-375,-185) 3(-325,-185) 4(-275,-185) 5(-225,-185) 6(-175,-185) 7(-125,-185) 8(-75,-185) 9(-25,-185) 10(25,-185) 11(75,-185) 12(125,-185) 13(175,-185) 14(225,-185) 15(275,-185) 16(325,-185) 17(375,-185) 18(425,-185) 19(425,185) 20(375,185) 21(325,185) 22(275,185) 23(225,185) 24(175,185) 25(125,185) 26(75,185) 27(25,185) 28(-25,185) 29(-75,185) 30(-125,185) 31(-175,185) 32(-225,185) 33(-275,185) 34(-325,185) 35(-375,185) 36(-425,185)
Top Overlay:
  circle w8: c-400,-100 r25
  lines w8: -461.42,-198.82 461.42,-198.82 461.42,198.82 -461.42,198.82 -461.42,-198.82
Mechanical 16:
  rectangle: -435,-222 -415,-148
  rectangle: -385,-222 -365,-148
  rectangle: -335,-222 -315,-148
  rectangle: -285,-222 -265,-148
  rectangle: -235,-222 -215,-148
  rectangle: -185,-222 -165,-148
  rectangle: -135,-222 -115,-148
  rectangle: -85,-222 -65,-148
  rectangle: -35,-222 -15,-148
  rectangle: 15,-222 35,-148
  rectangle: 65,-222 85,-148
  rectangle: 115,-222 135,-148
  rectangle: 165,-222 185,-148
  rectangle: 215,-222 235,-148
  rectangle: 265,-222 285,-148
  rectangle: 315,-222 335,-148
  rectangle: 365,-222 385,-148
  rectangle: 415,-222 435,-148
  region: 435,222 415,222 415,148 435,148
  region: 385,222 365,222 365,148 385,148
  region: 335,222 315,222 315,148 335,148
  region: 285,222 265,222 265,148 285,148
  region: 235,222 215,222 215,148 235,148
  region: 185,222 165,222 165,148 185,148
  region: 135,222 115,222 115,148 135,148
  region: 85,222 65,222 65,148 85,148
  region: 35,222 15,222 15,148 35,148
  region: -15,222 -35,222 -35,148 -15,148
  region: -65,222 -85,222 -85,148 -65,148
  region: -115,222 -135,222 -135,148 -115,148
  region: -165,222 -185,222 -185,148 -165,148
  region: -215,222 -235,222 -235,148 -215,148
  region: -265,222 -285,222 -285,148 -265,148
  region: -315,222 -335,222 -335,148 -315,148
  region: -365,222 -385,222 -385,148 -365,148
  region: -415,222 -435,222 -435,148 -415,148

## SOP28 [mil]
pads (28):
  rect 23.62x86.61 smd: 1(-325,-216.54) 2(-275,-216.54) 3(-225,-216.54) 4(-175,-216.54) 5(-125,-216.54) 6(-75,-216.54) 7(-25,-216.54) 8(25,-216.54) 9(75,-216.54) 10(125,-216.54) 11(175,-216.54) 12(225,-216.54) 13(275,-216.54) 14(325,-216.54) 15(325,216.54) 16(275,216.54) 17(225,216.54) 18(175,216.54) 19(125,216.54) 20(75,216.54) 21(25,216.54) 22(-25,216.54) 23(-75,216.54) 24(-125,216.54) 25(-175,216.54) 26(-225,216.54) 27(-275,216.54) 28(-325,216.54)
Top Overlay:
  circle w8: c-322.5,-132.5 r17.5
  lines w8: -370.67,-193.31 -370.67,193.31 ; 370.67,-193.31 370.67,193.31
Mechanical 16:
  rectangle: -334.84,-249.61 -315.16,-197.24
  rectangle: -284.84,-249.61 -265.16,-197.24
  rectangle: -234.84,-249.61 -215.16,-197.24
  rectangle: -184.84,-249.61 -165.16,-197.24
  rectangle: -134.84,-249.61 -115.16,-197.24
  rectangle: -84.84,-249.61 -65.16,-197.24
  rectangle: -34.84,-249.61 -15.16,-197.24
  rectangle: 15.16,-249.61 34.84,-197.24
  rectangle: 65.16,-249.61 84.84,-197.24
  rectangle: 115.16,-249.61 134.84,-197.24
  rectangle: 165.16,-249.61 184.84,-197.24
  rectangle: 215.16,-249.61 234.84,-197.24
  rectangle: 265.16,-249.61 284.84,-197.24
  rectangle: 315.16,-249.61 334.84,-197.24
  rectangle: 315.16,197.24 334.84,249.61
  rectangle: 265.16,197.24 284.84,249.61
  rectangle: 215.16,197.24 234.84,249.61
  rectangle: 165.16,197.24 184.84,249.61
  rectangle: 115.16,197.24 134.84,249.61
  rectangle: 65.16,197.24 84.84,249.61
  rectangle: 15.16,197.24 34.84,249.61
  rectangle: -34.84,197.24 -15.16,249.61
  rectangle: -84.84,197.24 -65.16,249.61
  rectangle: -134.84,197.24 -115.16,249.61
  rectangle: -184.84,197.24 -165.16,249.61
  rectangle: -234.84,197.24 -215.16,249.61
  rectangle: -284.84,197.24 -265.16,249.61
  rectangle: -334.84,197.24 -315.16,249.61
  lines w8: -370.67,-193.31 370.67,-193.31 ; -370.67,193.31 370.67,193.31

## TSOP1-28 [mm]
pads (28):
  rect 1x0.3 smd: 1(-6.5,-0.275) 2(-6.5,-0.825) 3(-6.5,-1.375) 4(-6.5,-1.925) 5(-6.5,-2.475) 6(-6.5,-3.025) 7(-6.5,-3.575) 8(6.5,-3.575) 9(6.5,-3.025) 10(6.5,-2.475) 11(6.5,-1.925) 12(6.5,-1.375) 13(6.5,-0.825) 14(6.5,-0.275) 15(6.5,0.275) 16(6.5,0.825) 17(6.5,1.375) 18(6.5,1.925) 19(6.5,2.475) 20(6.5,3.025) 21(6.5,3.575) 22(-6.5,3.575) 23(-6.5,3.025) 24(-6.5,2.475) 25(-6.5,1.925) 26(-6.5,1.375) 27(-6.5,0.825) 28(-6.5,0.275)
Top Overlay:
  circle w0: c-4.95,3.3 r0.301
  lines w0.203: -5.845,-0.645 -5.845,-3.945 5.845,-3.945 5.845,3.945 -5.845,3.945 -5.845,0.645 ; -5.845,-0.645 -5.845,0.645 ; -5.845,-0.645 ccw(c-5.795,0) -5.845,0.645
Top Solder:
  rectangle: -7.025,-0.45 -5.975,-0.1
  rectangle: -7.025,-1 -5.975,-0.65
  rectangle: -7.025,-1.55 -5.975,-1.2
  rectangle: -7.025,-2.1 -5.975,-1.75
  rectangle: -7.025,-2.65 -5.975,-2.3
  rectangle: -7.025,-3.2 -5.975,-2.85
  rectangle: -7.025,-3.75 -5.975,-3.4
  region: 7.025,-3.4 5.975,-3.4 5.975,-3.75 7.025,-3.75
  region: 7.025,-2.85 5.975,-2.85 5.975,-3.2 7.025,-3.2
  region: 7.025,-2.3 5.975,-2.3 5.975,-2.65 7.025,-2.65
  region: 7.025,-1.75 5.975,-1.75 5.975,-2.1 7.025,-2.1
  region: 7.025,-1.2 5.975,-1.2 5.975,-1.55 7.025,-1.55
  region: 7.025,-0.65 5.975,-0.65 5.975,-1 7.025,-1
  region: 7.025,-0.1 5.975,-0.1 5.975,-0.45 7.025,-0.45
  region: 7.025,0.45 5.975,0.45 5.975,0.1 7.025,0.1
  region: 7.025,1 5.975,1 5.975,0.65 7.025,0.65
  region: 7.025,1.55 5.975,1.55 5.975,1.2 7.025,1.2
  region: 7.025,2.1 5.975,2.1 5.975,1.75 7.025,1.75
  region: 7.025,2.65 5.975,2.65 5.975,2.3 7.025,2.3
  region: 7.025,3.2 5.975,3.2 5.975,2.85 7.025,2.85
  region: 7.025,3.75 5.975,3.75 5.975,3.4 7.025,3.4
  rectangle: -7.025,3.4 -5.975,3.75
  rectangle: -7.025,2.85 -5.975,3.2
  rectangle: -7.025,2.3 -5.975,2.65
  rectangle: -7.025,1.75 -5.975,2.1
  rectangle: -7.025,1.2 -5.975,1.55
  rectangle: -7.025,0.65 -5.975,1
  rectangle: -7.025,0.1 -5.975,0.45
Mechanical 16:
  rectangle: -6.8,-0.425 -5.925,-0.125
  rectangle: -6.8,-0.975 -5.925,-0.675
  rectangle: -6.8,-1.525 -5.925,-1.225
  rectangle: -6.8,-2.075 -5.925,-1.775
  rectangle: -6.8,-2.625 -5.925,-2.325
  rectangle: -6.8,-3.175 -5.925,-2.875
  rectangle: -6.8,-3.725 -5.925,-3.425
  region: 6.8,-3.425 5.925,-3.425 5.925,-3.725 6.8,-3.725
  region: 6.8,-2.875 5.925,-2.875 5.925,-3.175 6.8,-3.175
  region: 6.8,-2.325 5.925,-2.325 5.925,-2.625 6.8,-2.625
  region: 6.8,-1.775 5.925,-1.775 5.925,-2.075 6.8,-2.075
  region: 6.8,-1.225 5.925,-1.225 5.925,-1.525 6.8,-1.525
  region: 6.8,-0.675 5.925,-0.675 5.925,-0.975 6.8,-0.975
  region: 6.8,-0.125 5.925,-0.125 5.925,-0.425 6.8,-0.425
  region: 6.8,0.425 5.925,0.425 5.925,0.125 6.8,0.125
  region: 6.8,0.975 5.925,0.975 5.925,0.675 6.8,0.675
  region: 6.8,1.525 5.925,1.525 5.925,1.225 6.8,1.225
  region: 6.8,2.075 5.925,2.075 5.925,1.775 6.8,1.775
  region: 6.8,2.625 5.925,2.625 5.925,2.325 6.8,2.325
  region: 6.8,3.175 5.925,3.175 5.925,2.875 6.8,2.875
  region: 6.8,3.725 5.925,3.725 5.925,3.425 6.8,3.425
  rectangle: -6.8,3.425 -5.925,3.725
  rectangle: -6.8,2.875 -5.925,3.175
  rectangle: -6.8,2.325 -5.925,2.625
  rectangle: -6.8,1.775 -5.925,2.075
  rectangle: -6.8,1.225 -5.925,1.525
  rectangle: -6.8,0.675 -5.925,0.975
  rectangle: -6.8,0.125 -5.925,0.425
Mechanical 27:
  lines w0.2: -5.4,-7.9 -5.4,7.9 5.4,7.9 5.4,-7.9 -5.4,-7.9

## TSOP1-28-R [mm]
pads (28):
  rect 1x0.3 smd: 1(-6.5,0.275) 2(-6.5,0.825) 3(-6.5,1.375) 4(-6.5,1.925) 5(-6.5,2.475) 6(-6.5,3.025) 7(-6.5,3.575) 8(6.5,3.575) 9(6.5,3.025) 10(6.5,2.475) 11(6.5,1.925) 12(6.5,1.375) 13(6.5,0.825) 14(6.5,0.275) 15(6.5,-0.275) 16(6.5,-0.825) 17(6.5,-1.375) 18(6.5,-1.925) 19(6.5,-2.475) 20(6.5,-3.025) 21(6.5,-3.575) 22(-6.5,-3.575) 23(-6.5,-3.025) 24(-6.5,-2.475) 25(-6.5,-1.925) 26(-6.5,-1.375) 27(-6.5,-0.825) 28(-6.5,-0.275)
Top Overlay:
  circle w0: c-4.675,-3.2 r0.301
  lines w0.203: -5.845,-0.645 -5.845,-3.945 5.845,-3.945 5.845,3.945 -5.845,3.945 -5.845,0.645 ; -5.845,-0.645 -5.845,0.645 ; -5.845,-0.645 ccw(c-5.795,0) -5.845,0.645
  text "Reverse" at -3.81,-3.175 h0.52
Top Solder:
  rectangle: -7.025,-0.45 -5.975,-0.1
  rectangle: -7.025,-1 -5.975,-0.65
  rectangle: -7.025,-1.55 -5.975,-1.2
  rectangle: -7.025,-2.1 -5.975,-1.75
  rectangle: -7.025,-2.65 -5.975,-2.3
  rectangle: -7.025,-3.2 -5.975,-2.85
  rectangle: -7.025,-3.75 -5.975,-3.4
  region: 7.025,-3.4 5.975,-3.4 5.975,-3.75 7.025,-3.75
  region: 7.025,-2.85 5.975,-2.85 5.975,-3.2 7.025,-3.2
  region: 7.025,-2.3 5.975,-2.3 5.975,-2.65 7.025,-2.65
  region: 7.025,-1.75 5.975,-1.75 5.975,-2.1 7.025,-2.1
  region: 7.025,-1.2 5.975,-1.2 5.975,-1.55 7.025,-1.55
  region: 7.025,-0.65 5.975,-0.65 5.975,-1 7.025,-1
  region: 7.025,-0.1 5.975,-0.1 5.975,-0.45 7.025,-0.45
  region: 7.025,0.45 5.975,0.45 5.975,0.1 7.025,0.1
  region: 7.025,1 5.975,1 5.975,0.65 7.025,0.65
  region: 7.025,1.55 5.975,1.55 5.975,1.2 7.025,1.2
  region: 7.025,2.1 5.975,2.1 5.975,1.75 7.025,1.75
  region: 7.025,2.65 5.975,2.65 5.975,2.3 7.025,2.3
  region: 7.025,3.2 5.975,3.2 5.975,2.85 7.025,2.85
  region: 7.025,3.75 5.975,3.75 5.975,3.4 7.025,3.4
  rectangle: -7.025,3.4 -5.975,3.75
  rectangle: -7.025,2.85 -5.975,3.2
  rectangle: -7.025,2.3 -5.975,2.65
  rectangle: -7.025,1.75 -5.975,2.1
  rectangle: -7.025,1.2 -5.975,1.55
  rectangle: -7.025,0.65 -5.975,1
  rectangle: -7.025,0.1 -5.975,0.45
Mechanical 16:
  rectangle: -6.8,-0.425 -5.925,-0.125
  rectangle: -6.8,-0.975 -5.925,-0.675
  rectangle: -6.8,-1.525 -5.925,-1.225
  rectangle: -6.8,-2.075 -5.925,-1.775
  rectangle: -6.8,-2.625 -5.925,-2.325
  rectangle: -6.8,-3.175 -5.925,-2.875
  rectangle: -6.8,-3.725 -5.925,-3.425
  region: 6.8,-3.425 5.925,-3.425 5.925,-3.725 6.8,-3.725
  region: 6.8,-2.875 5.925,-2.875 5.925,-3.175 6.8,-3.175
  region: 6.8,-2.325 5.925,-2.325 5.925,-2.625 6.8,-2.625
  region: 6.8,-1.775 5.925,-1.775 5.925,-2.075 6.8,-2.075
  region: 6.8,-1.225 5.925,-1.225 5.925,-1.525 6.8,-1.525
  region: 6.8,-0.675 5.925,-0.675 5.925,-0.975 6.8,-0.975
  region: 6.8,-0.125 5.925,-0.125 5.925,-0.425 6.8,-0.425
  region: 6.8,0.425 5.925,0.425 5.925,0.125 6.8,0.125
  region: 6.8,0.975 5.925,0.975 5.925,0.675 6.8,0.675
  region: 6.8,1.525 5.925,1.525 5.925,1.225 6.8,1.225
  region: 6.8,2.075 5.925,2.075 5.925,1.775 6.8,1.775
  region: 6.8,2.625 5.925,2.625 5.925,2.325 6.8,2.325
  region: 6.8,3.175 5.925,3.175 5.925,2.875 6.8,2.875
  region: 6.8,3.725 5.925,3.725 5.925,3.425 6.8,3.425
  rectangle: -6.8,3.425 -5.925,3.725
  rectangle: -6.8,2.875 -5.925,3.175
  rectangle: -6.8,2.325 -5.925,2.625
  rectangle: -6.8,1.775 -5.925,2.075
  rectangle: -6.8,1.225 -5.925,1.525
  rectangle: -6.8,0.675 -5.925,0.975
  rectangle: -6.8,0.125 -5.925,0.425

## TSOPII-32 [mil]
pads (32):
  rect 23.62x47.24 smd: 1(-375,-221.54) 2(-325,-221.54) 3(-275,-221.54) 4(-225,-221.54) 5(-175,-221.54) 6(-125,-221.54) 7(-75,-221.54) 8(-25,-221.54) 9(25,-221.54) 10(75,-221.54) 11(125,-221.54) 12(175,-221.54) 13(225,-221.54) 14(275,-221.54) 15(325,-221.54) 16(375,-221.54) 17(375,221.62) 18(325,221.62) 19(275,221.62) 20(225,221.62) 21(175,221.62) 22(125,221.62) 23(75,221.62) 24(25,221.62) 25(-25,221.62) 26(-75,221.62) 27(-125,221.62) 28(-175,221.62) 29(-225,221.62) 30(-275,221.62) 31(-325,221.62) 32(-375,221.62)
Top Overlay:
  circle w6: c-350,-150 r21
  lines w6: -393,-198 -412,-198 -412,203 -393,203 ; -357,-198 -343,-198 ; -357,203 -343,203 ; -307,-198 -293,-198 ; -307,203 -293,203 ; -257,-198 -243,-198 ; -257,203 -243,203 ; -207,-198 -193,-198 ; -207,203 -193,203 ; -157,-198 -143,-198 ; -157,203 -143,203 ; -107,-198 -93,-198 ; -107,203 -93,203 ; -57,-198 -43,-198 ; -57,203 -43,203 ; -7,-198 7,-198 ; -7,203 7,203 ; 43,-198 57,-198 ; 43,203 57,203 ; 93,-198 107,-198 ; 93,203 107,203 ; 143,-198 157,-198 ; 143,203 157,203 ; 193,-198 207,-198 ; 193,203 207,203 ; 243,-198 257,-198 ; 243,203 257,203 ; 293,-198 307,-198 ; 293,203 307,203 ; 343,-198 357,-198 ; 343,203 357,203 ; 393,-198 410,-198 410,203 393,203
Mechanical 16:
  rectangle: -385,-235.75 -365,-200.79
  rectangle: -335,-235.75 -315,-200.79
  rectangle: -285,-235.75 -265,-200.79
  rectangle: -235,-235.75 -215,-200.79
  rectangle: -185,-235.75 -165,-200.79
  rectangle: -135,-235.75 -115,-200.79
  rectangle: -85,-235.75 -65,-200.79
  rectangle: -35,-235.75 -15,-200.79
  rectangle: 15,-235.75 35,-200.79
  rectangle: 65,-235.75 85,-200.79
  rectangle: 115,-235.75 135,-200.79
  rectangle: 165,-235.75 185,-200.79
  rectangle: 215,-235.75 235,-200.79
  rectangle: 265,-235.75 285,-200.79
  rectangle: 315,-235.75 335,-200.79
  rectangle: 365,-235.75 385,-200.79
  region: 385,235.75 365,235.75 365,200.79 385,200.79
  region: 335,235.75 315,235.75 315,200.79 335,200.79
  region: 285,235.75 265,235.75 265,200.79 285,200.79
  region: 235,235.75 215,235.75 215,200.79 235,200.79
  region: 185,235.75 165,235.75 165,200.79 185,200.79
  region: 135,235.75 115,235.75 115,200.79 135,200.79
  region: 85,235.75 65,235.75 65,200.79 85,200.79
  region: 35,235.75 15,235.75 15,200.79 35,200.79
  region: -15,235.75 -35,235.75 -35,200.79 -15,200.79
  region: -65,235.75 -85,235.75 -85,200.79 -65,200.79
  region: -115,235.75 -135,235.75 -135,200.79 -115,200.79
  region: -165,235.75 -185,235.75 -185,200.79 -165,200.79
  region: -215,235.75 -235,235.75 -235,200.79 -215,200.79
  region: -265,235.75 -285,235.75 -285,200.79 -265,200.79
  region: -315,235.75 -335,235.75 -335,200.79 -315,200.79
  region: -365,235.75 -385,235.75 -385,200.79 -365,200.79
  lines w6: -393,-198 -357,-198 ; -393,203 -357,203 ; -343,-198 -307,-198 ; -343,203 -307,203 ; -293,-198 -257,-198 ; -293,203 -257,203 ; -243,-198 -207,-198 ; -243,203 -207,203 ; -193,-198 -157,-198 ; -193,203 -157,203 ; -143,-198 -107,-198 ; -143,203 -107,203 ; -93,-198 -57,-198 ; -93,203 -57,203 ; -43,-198 -7,-198 ; -43,203 -7,203 ; 7,-198 43,-198 ; 7,203 43,203 ; 57,-198 93,-198 ; 57,203 93,203 ; 107,-198 143,-198 ; 107,203 143,203 ; 157,-198 193,-198 ; 157,203 193,203 ; 207,-198 243,-198 ; 207,203 243,203 ; 257,-198 293,-198 ; 257,203 293,203 ; 307,-198 343,-198 ; 307,203 343,203 ; 357,-198 393,-198 ; 357,203 393,203